# Altium schematic symbol library lab1.SchLib: 15 symbols
Pins are listed as number, name and electrical type; pins without a type are passive.

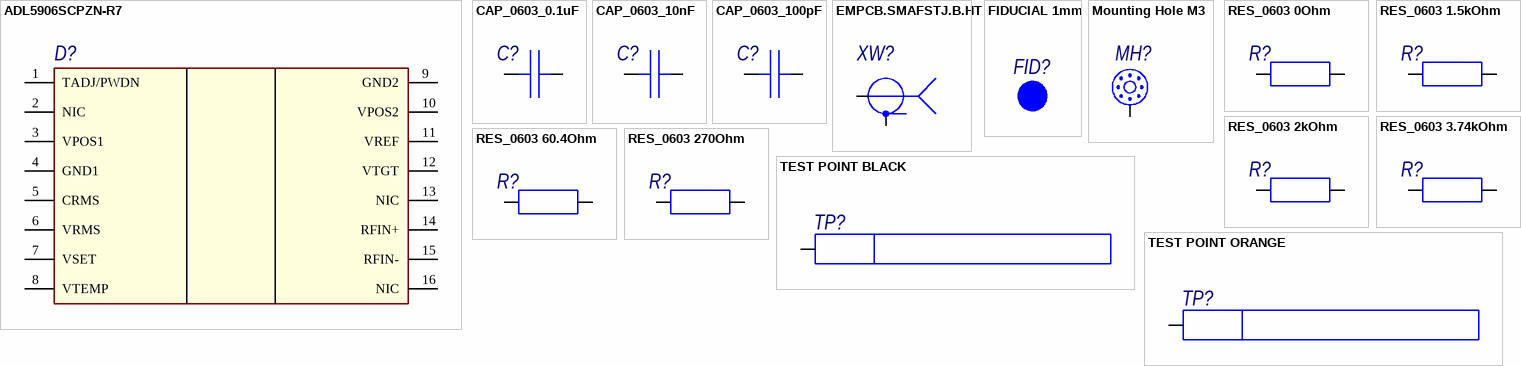
[diagram p0: symbols ADL5906SCPZN-R7 to TEST POINT ORANGE]

## ADL5906SCPZN-R7
designator D?  (value not drawn)
IC RF DETECT 10MHZ-10GHZ 16CSP; Manufacturer: Analog Devices Inc.; Part Number: ADL5906SCPZN-R7; Package: 16-WQFN Exposed Pad; Mount: SMT; Type: *; Min Operating Temperature: 0°C; Max Operating Temperature: +85°C; Number of Pins: 16
footprint ADL5906SCPZN-R7
pins: 1 TADJ/PWDN, 2 NIC, 3 VPOS1, 4 GND1, 5 CRMS, 6 VRMS, 7 VSET, 8 VTEMP, 9 GND2, 10 VPOS2, 11 VREF, 12 VTGT, 13 NIC, 14 RFIN+, 15 RFIN-, 16 NIC

## CAP_0603_0.1uF
designator C?  (value not drawn)
C0603C104K5RAC7867; Manufacturer: KEMET; Part Number: 399-C0603C104K5RAC7867DKR-ND; Value: 0.1мкФ; Tolerance: ±10%; Voltage: 50В; Type: Конденсатор керамічний; Dielectric: X7R; Package: 0603; Mount: SMT; Min Operating Temperature: -55; Max Operating Temperature: 125; Number of Pins: 2
footprint CAP_0603_0.1uF
pins: 1, 2

## CAP_0603_10nF
designator C?  (value not drawn)
C0603C103K5RAC7867; Manufacturer: KEMET; Part Number: 399-C0603C103K5RAC7867DKR-ND; Value: 10нФ; Tolerance: ±10%; Voltage: 50В; Type: Конденсатор керамічний; Dielectric: X7R; Package: 0603; Mount: SMT; Min Operating Temperature: -55; Max Operating Temperature: 125; Number of Pins: 2
footprint CAP_0603_10nF
pins: 1, 2

## CAP_0603_100pF
designator C?  (value not drawn)
C0603C101K5GAC7867; Manufacturer: KEMET; Part Number: 399-C0603C101K5GAC7867DKR-ND; Value: 100пФ; Tolerance: ±10%; Voltage: 50В; Type: Конденсатор керамічний; Dielectric: X7R; Package: 0603; Mount: SMT; Min Operating Temperature: -55; Max Operating Temperature: 125; Number of Pins: 2
footprint CAP_0603_100pF
pins: 1, 2

## EMPCB.SMAFSTJ.B.HT
designator XW?  (value not drawn)
50 Ω, side launch SMA connectors; Manufacturer: Taoglas Limited; Part Number: EMPCB.SMAFSTJ.B.HT; Number of Pins: 2; Mount: SMT; Min Operating Temperature: -40°C; Max Operating Temperature: +85°C; Mated With: *; Type: Female Socket
footprint EMPCB.SMAFSTJ.B.HT
pins: 1, 2

## FIDUCIAL 1mm
designator FID?, comment Fiducial  (value not drawn)  (no BOM)
Fiducial 1mm Pad; Value: Fiducial; Component Function: *
footprint FIDUCIAL 1mm

## Mounting Hole M3
designator MH?  (value not drawn)
footprint Mounting Hole M3
pins: 1

## RES_0603 0Ohm
designator R?  (value not drawn)
RES 0 OHM JUMPER 1/10W 0603; Manufacturer: Stackpole Electronics Inc; Part Number: RMCF0603ZT0R00DKR-ND; Value: 0Ом; Tolerance: ±1%; Power Rating: 1/10 Вт; Package: 0603; Type: Резистор; Mount: SMT; Min Operating Temperature: -55°C; Max Operating Temperature: +155°C; Number of Pins: 2
footprint RES_0603 0Ohm
pins: 1, 2

## RES_0603 1.5kOhm
designator R?  (value not drawn)
RES 1.5K OHM 1% 1/10W 0603; Manufacturer: Stackpole Electronics Inc; Part Number: RMCF0603FT1K50DKR-ND; Value: 1.5кОм; Power Rating: 1/10 Вт; Package: 0603; Tolerance: ±1%; Type: Резистор; Mount: SMT; Min Operating Temperature: -55°C; Max Operating Temperature: +155°C; Number of Pins: 2
footprint RES_0603 1.5kOhm
pins: 1, 2

## RES_0603 2kOhm
designator R?  (value not drawn)
RES 2K OHM 1% 1/10W 0603; Manufacturer: Stackpole Electronics Inc; Part Number: RMCF0603FT2K00DKR-ND; Value: 2кОм; Power Rating: 1/10 Вт; Package: 0603; Tolerance: ±1%; Type: Резистор; Mount: SMT; Min Operating Temperature: -55°C; Max Operating Temperature: +155°C; Number of Pins: 2
footprint RES_0603 2kOhm
pins: 1, 2

## RES_0603 3.74kOhm
designator R?  (value not drawn)
RES 3.74K OHM 1% 1/10W 0603; Manufacturer: Stackpole Electronics Inc; Part Number: RMCF0603FT60R4DKR-ND; Value: 3.74кОм; Power Rating: 1/10 Вт; Package: 0603; Tolerance: ±1%; Type: Резистор; Mount: SMT; Min Operating Temperature: -55°C; Max Operating Temperature: +155°C; Number of Pins: 2
footprint RES_0603 3.74kOhm
pins: 1, 2

## RES_0603 60.4Ohm
designator R?  (value not drawn)
RES 60.4 OHM 1% 1/10W 0603; Manufacturer: Stackpole Electronics Inc; Part Number: RMCF0603FT60R4DKR-ND; Value: 60.4Ом; Power Rating: 1/10 Вт; Package: 0603; Tolerance: ±1%; Type: Резистор; Mount: SMT; Min Operating Temperature: -55°C; Max Operating Temperature: +155°C; Number of Pins: 2
footprint RES_0603 60.4Ohm
pins: 1, 2

## RES_0603 270Ohm
designator R?  (value not drawn)
RES 270 OHM 1% 1/10W 0603; Manufacturer: Stackpole Electronics Inc; Part Number: RMCF0603FT270RDKR-ND; Value: 270Ом; Power Rating: 1/10 Вт; Package: 0603; Tolerance: ±1%; Type: Резистор; Mount: SMT; Min Operating Temperature: -55°C; Max Operating Temperature: +155°C; Number of Pins: 2
footprint RES_0603 270Ohm
pins: 1, 2

## TEST POINT BLACK
designator TP?, comment Test point  (value not drawn)  (no BOM)
PC TEST POINT MINIATURE BLACK; Value: Test point; Component Function: *
footprint TEST POINT BLACK
pins: 1

## TEST POINT ORANGE
designator TP?, comment Test point  (value not drawn)  (no BOM)
PC TEST POINT MINIATURE ORANGE; Value: Test point; Component Function: *
footprint TEST POINT ORANGE
pins: 1